# EAGLE library part REG104 (library igeek)
REG104 DMOS 1A Low-Dropout Regulator
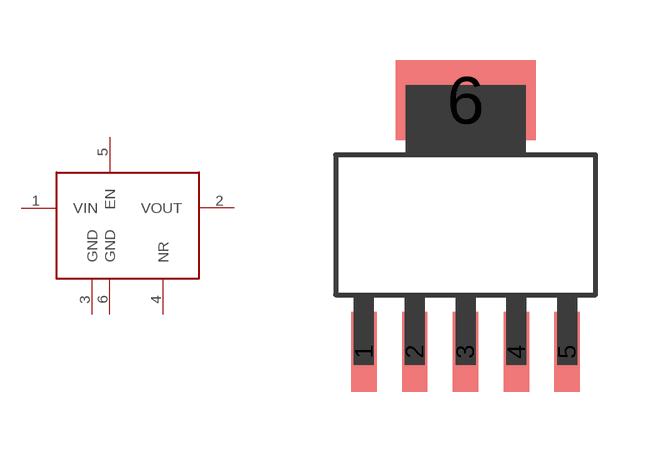
[diagram p2: symbol with the pads of SOT223-5; footprint SOT223-5]

Designator prefix -

## REG104  [SOT223-5]
1  VIN  in
2  VOUT  out
3  GND  sup
4  NR  pas
5  EN  in
6  GND  sup

## Footprint SOT223-5 (pad centres in mm)
SOT223-5
smd 0.635 x 2: 1 -2.54,-3.175; 2 -1.27,-3.175; 3 0,-3.175; 4 1.27,-3.175; 5 2.54,-3.175
smd 3.5 x 2: 6 0,3.125